# Altium schematic symbol library SCH - POWER - LINEAR VREG - STM LDK715M50R.SchLib: 2 symbols
Pins are listed as number, name and electrical type; pins without a type are passive.

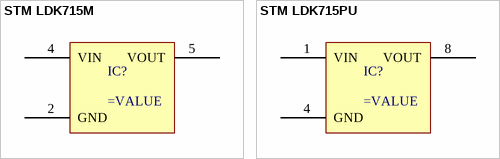
[diagram p0: symbols STM LDK715M to STM LDK715PU]

## STM LDK715M
designator IC?
pins: 2 GND, 4 VIN, 5 VOUT

## STM LDK715PU
designator IC?
pins: 1 VIN, 4 GND, 8 VOUT